# Altium footprint library BN_LG10Y800MYB.PcbLib: 1 footprints
Each footprint in its own frame and in the unit in brackets; x right, y up, seen from the top. Pads: shape width x height; smd on the part's side, far side on the other; paste and mask are expansions set on the pad; w line width, h text height; cw(c..) or ccw(c..) is an arc to the next point about the centre after c.
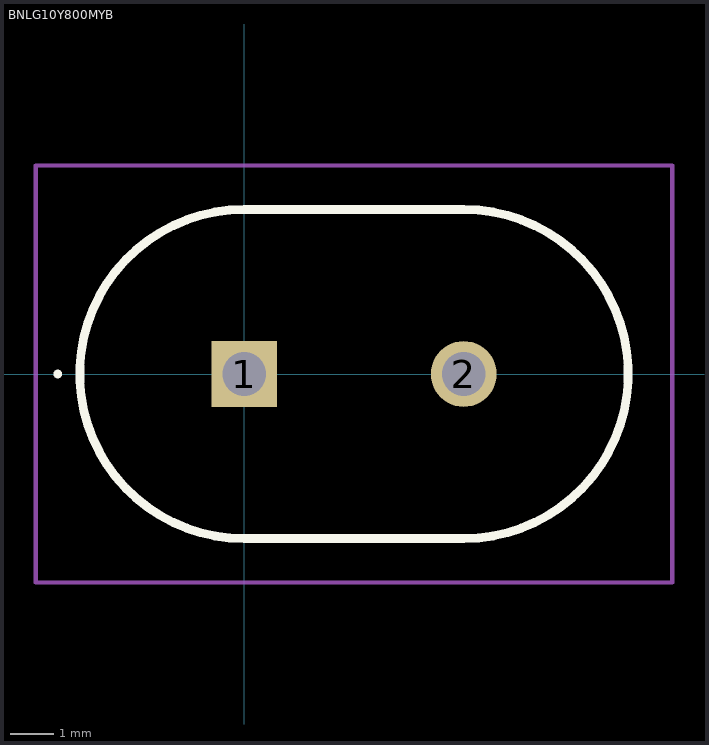
[diagram p0: the footprint, top view; thin cyan lines are the x and y axes]

## BNLG10Y800MYB [mm]
pads (2):
  rect 1.5x1.5 hole 1: 1(0,0)
  round 1.5 hole 1: 2(5,0)
Top Overlay:
  lines w0.1: -4.3,0 ccw(c-4.25,0) -4.2,0 ccw(c-4.25,0) -4.3,0
  lines w0.2: 0,-3.75 cw(c0,0) 0,3.75 5,3.75 cw(c5,0) 5,-3.75 0,-3.75
Mechanical 15:
  lines w0.1: 0,-3.75 cw(c0,0) 0,3.75 5,3.75 cw(c5,0) 5,-3.75 0,-3.75
Mechanical 20:
  lines w0.1: -4.75,-4.75 -4.75,4.75 9.75,4.75 9.75,-4.75 -4.75,-4.75
3D body "BN-LG10Y-Y Type.STP": height 20.22, standoff -21.57, extent -3.71,-3.877 8.79,3.623